# Altium footprint library MT7688A test board library.PcbLib: 24 footprints (part 2 of 2)
Each footprint in its own frame and in the unit in brackets; x right, y up, seen from the top. Pads: shape width x height; smd on the part's side, far side on the other; paste and mask are expansions set on the pad; w line width, h text height; cw(c..) or ccw(c..) is an arc to the next point about the centre after c.
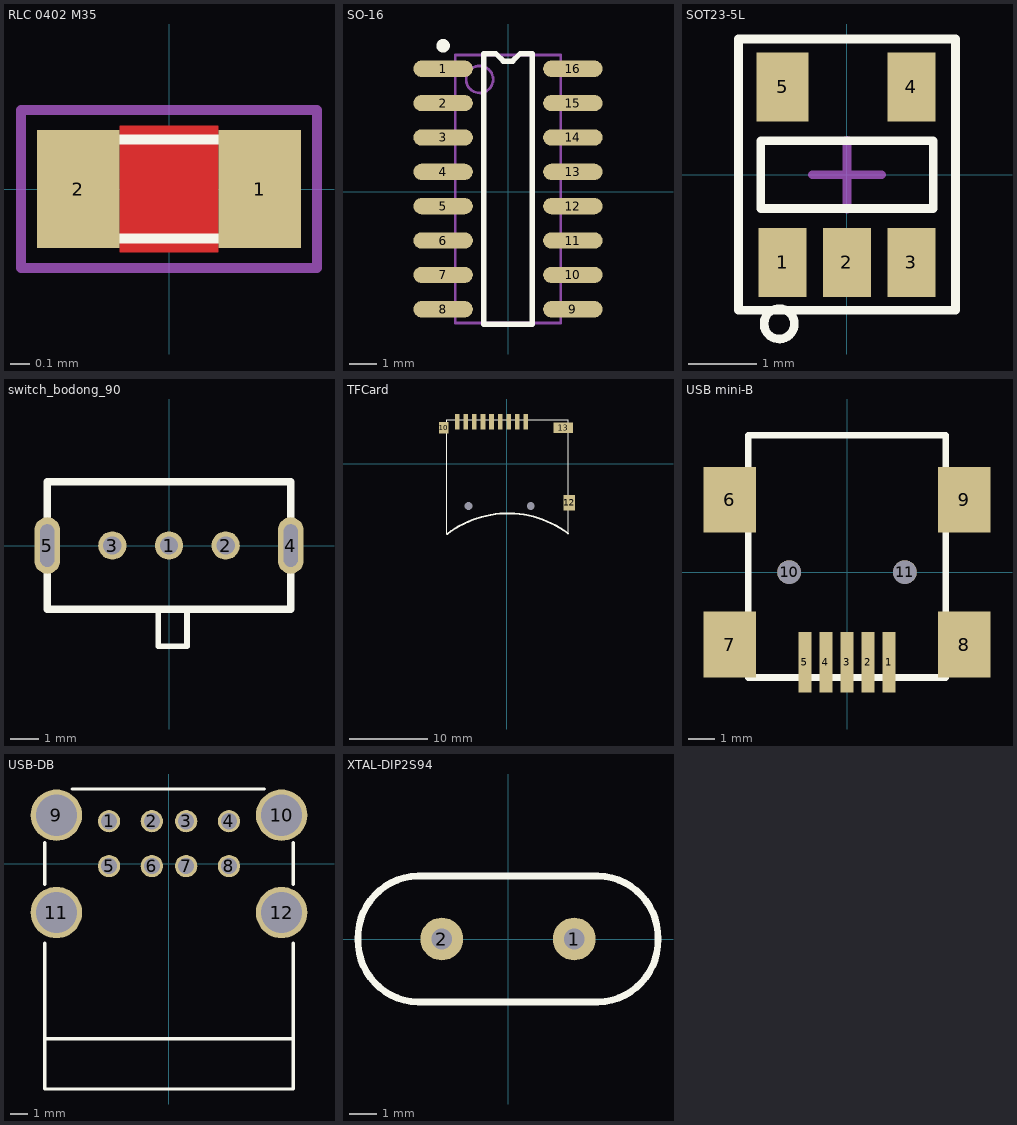
[diagram p1: the footprints below, top view; thin cyan lines are the x and y axes]

## RLC 0402 M35 [mm] "Chip RLC; Body 1.0x 0.5 mm (LxW typ)"
height 1.3
pads (2):
  rect 0.42x0.6 smd: 1(0.46,0) 2(-0.46,0)
Top Layer:
  pour cut-out: -0.25,0.32 0.25,0.32 0.25,-0.32 -0.25,-0.32
Top Overlay:
  lines w0.051: -0.5,-0.25 -0.5,0.25 0.5,0.25 0.5,-0.25 -0.5,-0.25
Mechanical 1:
  lines w0.051: -0.75,-0.4 -0.75,0.4 0.75,0.4 0.75,-0.4 -0.75,-0.4

## SO-16 [mm] "Small Outline; 16 Leads; Body Width 5.6 mm; Pitch 1.27 mm"
height 2.2
pads (16):
  oval 2.2x0.6 smd: 1(-2.4,4.545) 2(-2.4,3.275) 3(-2.4,2.005) 4(-2.4,0.735) 5(-2.4,-0.535) 6(-2.4,-1.805) 7(-2.4,-3.075) 8(-2.4,-4.345) 9(2.4,-4.345) 10(2.4,-3.075) 11(2.4,-1.805) 12(2.4,-0.535) 13(2.4,0.735) 14(2.4,2.005) 15(2.4,3.275) 16(2.4,4.545)
Top Overlay:
  circle w0.25: c-2.4,5.395 r0.125
  lines w0.2: -0.9,-4.9 -0.9,5.1 -0.45,5.1 -0.175,4.825 0.175,4.825 0.45,5.1 0.9,5.1 0.9,-4.9 -0.9,-4.9
Mechanical 13:
  circle w0.1: c-1.05,4.15 r0.5
  lines w0.1: -1.95,-4.85 -1.95,5.05 1.95,5.05 1.95,-4.85 -1.95,-4.85
3D body: height 1.4, standoff 0, extent -3,-4.825 3,5.075

## SOT23-5L [mil]
height 551.18
pads (5):
  rect 28x40 smd: 1(-37.4,-50.98) 2(0,-50.98) 3(37.4,-50.98) 4(37.4,50.98)
  rect 30x40 smd: 5(-37.4,50.98)
Top Overlay:
  circle w5: c-39.37,-86.61 r8.8
  lines w5: -62.99,-78.74 -62.99,78.74 62.99,78.74 62.99,-78.74 -62.99,-78.74 ; -50,-19.68 -50,19.68 50,19.68 50,-19.68 -50,-19.68
Mechanical 15:
  lines w5: -20,0 20,0 ; 0,-20 0,20

## switch_bodong_90 [mm]
pads (5):
  round 1 hole 0.65: 1(0,0) 2(2,0) 3(-2,0)
  oval 0.9x2 hole 0.5 slot 1.5 at 90 deg: 4(4.3,0) 5(-4.3,0)
Top Overlay:
  lines w0.2: -0.381,-3.556 0.635,-3.556 ; -0.381,-3.5 -0.381,-2.25 ; 0.635,-3.5 0.635,-2.286
  lines w0.254: -4.3,-2.25 4.3,-2.25 4.3,2.25 -4.3,2.25 -4.3,-2.25

## TFCard [mm]
pads (14):
  rect 0.6x2 smd: 1(2.476,5.397) 2(1.376,5.397) 3(0.276,5.397) 4(-0.824,5.397) 5(-1.923,5.397) 6(-3.023,5.397) 7(-4.123,5.397) 8(-5.223,5.397) 9(-6.324,5.397)
  rect 1.2x1.5 smd: 10(-8.064,4.635)
  rect 1.5x2 smd: 12(8.064,-5.016)
  rect 2.5x1.4 smd: 13(7.302,4.635)
  round 0 hole 1: ""(-4.889,-5.397) ""(3.111,-5.397)
Top Overlay:
  lines w0.127: -7.683,-9.055 -7.683,5.651 7.938,5.651 7.938,-8.954
  lines w0.254: -7.627,-9.007 cw(c0.191,-19.241) 7.887,-8.915

## USB mini-B [mm]
pads (11):
  rect 0.5x2.3 smd: 1(1.6,-3.429) 2(0.8,-3.429) 3(0,-3.429) 4(-0.8,-3.429) 5(-1.6,-3.429)
  rect 2x2.5 smd: 6(-4.45,2.75) 7(-4.45,-2.75) 8(4.45,-2.75) 9(4.45,2.75)
  round 0.9 hole 0.9: 10(-2.2,0) 11(2.2,0)
Top Overlay:
  lines w0.254: -3.75,-4 3.75,-4 3.75,5.2 -3.75,5.2 -3.75,-4

## USB-DB [mm] "双层usb"
pads (12):
  round 1.3 hole 0.94: 1(-3.5,2.49) 2(-1,2.49) 3(1,2.49) 4(3.5,2.49) 5(-3.5,-0.13) 6(-1,-0.13) 7(1,-0.13) 8(3.5,-0.13)
  round 3 hole 2.4: 9(-6.57,2.84) 10(6.57,2.84) 11(-6.57,-2.84) 12(6.57,-2.84)
Top Overlay:
  lines w0.2: -7.25,-10.21 0,-10.21 7.25,-10.21 ; -7.25,-4.633 -7.25,-13.14 7.25,-13.14 7.25,-4.633 ; -7.25,-1.204 -7.25,1.245 ; -5.639,4.37 5.563,4.37 ; 7.25,-1.204 7.25,1.245

## XTAL-DIP2S94 [mil]
pads (2):
  round 62 hole 30: 1(96.06,0) 2(-96.06,0)
Top Overlay:
  lines w10: -217.52,0 ccw(c-128.25,-2.26) -130.51,-91.54 130.51,-91.54 ccw(c128.25,-2.26) 217.52,0 ccw(c128.25,2.26) 130.51,91.54 -130.51,91.54 ccw(c-128.25,2.26) -217.52,0